# EAGLE library part TLV70025DSET (library TLV70025DSET)
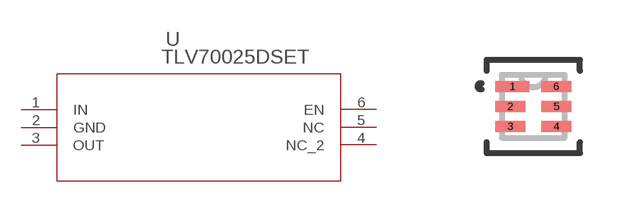
[diagram p0: symbol with the pads of DSE6; footprint DSE6]

Designator prefix U

## TLV70025DSET (MANUFACTURER_PART_NUMBER: TLV70025DSET; VENDOR: Texas Instruments)  [DSE6]
1  IN  in
2  GND  pwr
3  OUT  out
4  NC_2  pas
5  NC  pas
6  EN  pas

## Footprint DSE6 (pad centres in mm)
smd 0.85 x 0.28: 1 -0.525,0.5
smd 0.75 x 0.28: 2 -0.575,0; 3 -0.575,-0.5; 4 0.575,-0.5; 5 0.575,0; 6 0.575,0.5